# Altium footprint library QFN21P50_350X350X90L40X24T205N.PcbLib: 1 footprints
Each footprint in its own frame and in the unit in brackets; x right, y up, seen from the top. Pads: shape width x height; smd on the part's side, far side on the other; paste and mask are expansions set on the pad; w line width, h text height; cw(c..) or ccw(c..) is an arc to the next point about the centre after c.
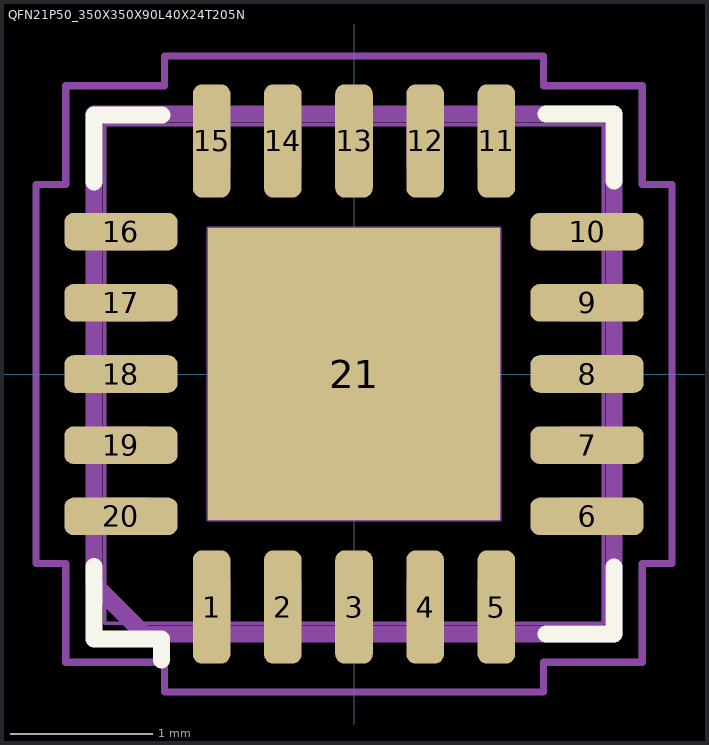
[diagram p0: the footprint, top view; thin cyan lines are the x and y axes]

## QFN21P50_350X350X90L40X24T205N [mm] "Quad Flat No-Lead (QFN) with Thermal Tab, 0.50 mm pitch;  square, 5 pin X 5 pin, 3.50 mm L X 3.50 mm W X 1.00 mm H Body"
height 1
pads (21):
  rrect50% 0.264x0.796 smd: 1(-1,-1.637) 2(-0.5,-1.637) 3(0,-1.637) 4(0.5,-1.637) 5(1,-1.637) 11(1,1.637) 12(0.5,1.637) 13(0,1.637) 14(-0.5,1.637) 15(-1,1.637)
  rrect50% 0.796x0.264 smd: 6(1.637,-1) 7(1.637,-0.5) 8(1.637,0) 9(1.637,0.5) 10(1.637,1) 16(-1.637,1) 17(-1.637,0.5) 18(-1.637,0) 19(-1.637,-0.5) 20(-1.637,-1)
  rect 2.05x2.05 smd paste-2.05: 21(0,0)
Top Overlay:
  lines w0.12: -1.825,-1.352 -1.825,-1.86 -1.352,-1.86 -1.352,-2.01 ; -1.825,1.35 -1.825,1.82 -1.35,1.82 ; 1.35,-1.825 1.825,-1.825 1.825,-1.355 ; 1.35,1.825 1.825,1.825 1.825,1.355
Top Paste:
  region: -0.149,0.149 -0.874,0.149 -0.874,0.874 -0.149,0.874
  region: -0.149,-0.874 -0.874,-0.874 -0.874,-0.149 -0.149,-0.149
  region: 0.874,0.149 0.149,0.149 0.149,0.874 0.874,0.874
  region: 0.874,-0.874 0.149,-0.874 0.149,-0.149 0.874,-0.149
Mechanical 3:
  lines w0.12: -1.825,-1.477 -1.825,1.825 1.825,1.825 1.825,-1.825 -1.477,-1.825 -1.825,-1.477
Mechanical 5:
  lines w0.025: -1.75,-1.75 1.75,-1.75 1.75,1.75 -1.75,1.75 -1.75,-1.75 ; -1.749,-1.12 -1.749,-0.88 -1.469,-0.88 cw(c-1.469,-1) -1.469,-1.12 -1.749,-1.12 ; -1.749,-0.62 -1.749,-0.38 -1.469,-0.38 cw(c-1.469,-0.5) -1.469,-0.62 -1.749,-0.62 ; -1.749,-0.12 -1.749,0.12 -1.469,0.12 cw(c-1.469,0) -1.469,-0.12 -1.749,-0.12 ; -1.749,0.38 -1.749,0.62 -1.469,0.62 cw(c-1.469,0.5) -1.469,0.38 -1.749,0.38 ; -1.749,0.88 -1.749,1.12 -1.469,1.12 cw(c-1.469,1) -1.469,0.88 -1.749,0.88 ; -1.12,-1.75 -0.88,-1.75 -0.88,-1.47 ccw(c-1,-1.47) -1.12,-1.47 -1.12,-1.75 ; -1.12,1.47 ccw(c-1,1.47) -0.88,1.47 -0.88,1.75 -1.12,1.75 -1.12,1.47 ; -1.025,-1.025 -1.025,1.025 1.025,1.025 1.025,-1.025 -1.025,-1.025 ; -0.62,-1.75 -0.38,-1.75 -0.38,-1.47 ccw(c-0.5,-1.47) -0.62,-1.47 -0.62,-1.75 ; -0.62,1.47 ccw(c-0.5,1.47) -0.38,1.47 -0.38,1.75 -0.62,1.75 -0.62,1.47 ; -0.12,-1.75 0.12,-1.75 0.12,-1.47 ccw(c0,-1.47) -0.12,-1.47 -0.12,-1.75 ; -0.12,1.47 ccw(c0,1.47) 0.12,1.47 0.12,1.75 -0.12,1.75 -0.12,1.47 ; 0.38,-1.75 0.62,-1.75 0.62,-1.47 ccw(c0.5,-1.47) 0.38,-1.47 0.38,-1.75 ; 0.38,1.47 ccw(c0.5,1.47) 0.62,1.47 0.62,1.75 0.38,1.75 0.38,1.47 ; 0.88,-1.75 1.12,-1.75 1.12,-1.47 ccw(c1,-1.47) 0.88,-1.47 0.88,-1.75 ; 0.88,1.47 ccw(c1,1.47) 1.12,1.47 1.12,1.75 0.88,1.75 0.88,1.47 ; 1.47,-1.12 cw(c1.47,-1) 1.47,-0.88 1.75,-0.88 1.75,-1.12 1.47,-1.12 ; 1.47,-0.62 cw(c1.47,-0.5) 1.47,-0.38 1.75,-0.38 1.75,-0.62 1.47,-0.62 ; 1.47,-0.12 cw(c1.47,0) 1.47,0.12 1.75,0.12 1.75,-0.12 1.47,-0.12 ; 1.47,0.38 cw(c1.47,0.5) 1.47,0.62 1.75,0.62 1.75,0.38 1.47,0.38 ; 1.47,0.88 cw(c1.47,1) 1.47,1.12 1.75,1.12 1.75,0.88 1.47,0.88
Mechanical 7:
  circle w0.05: c0,0 r0.25
  lines w0.05: -0.35,0 0.35,0 ; 0,-0.35 0,0.35 ; -2.235,-1.332 -2.025,-1.332 -2.025,-2.025 -1.332,-2.025 -1.332,-2.235 1.332,-2.235 1.332,-2.025 2.025,-2.025 2.025,-1.332 2.235,-1.332 2.235,1.332 2.025,1.332 2.025,2.025 1.332,2.025 1.332,2.235 -1.332,2.235 -1.332,2.025 -2.025,2.025 -2.025,1.332 -2.235,1.332 -2.235,-1.332
Mechanical 9:
  text "'.Designator'" at -5.69,-0.398 h1.02
3D body "QFN21P50_350X350X90L40X24T205.STEP": height 1, standoff 0, extent -1.8,-1.8 1.8,1.8
3D body: height 23.4, standoff -5, extent -2.235,-2.235 2.235,2.235